# Altium footprint library Discretes.PCBLIB: 77 footprints (part 3 of 5)
Each footprint in its own frame and in the unit in brackets; x right, y up, seen from the top. Pads: shape width x height; smd on the part's side, far side on the other; paste and mask are expansions set on the pad; w line width, h text height; cw(c..) or ccw(c..) is an arc to the next point about the centre after c.
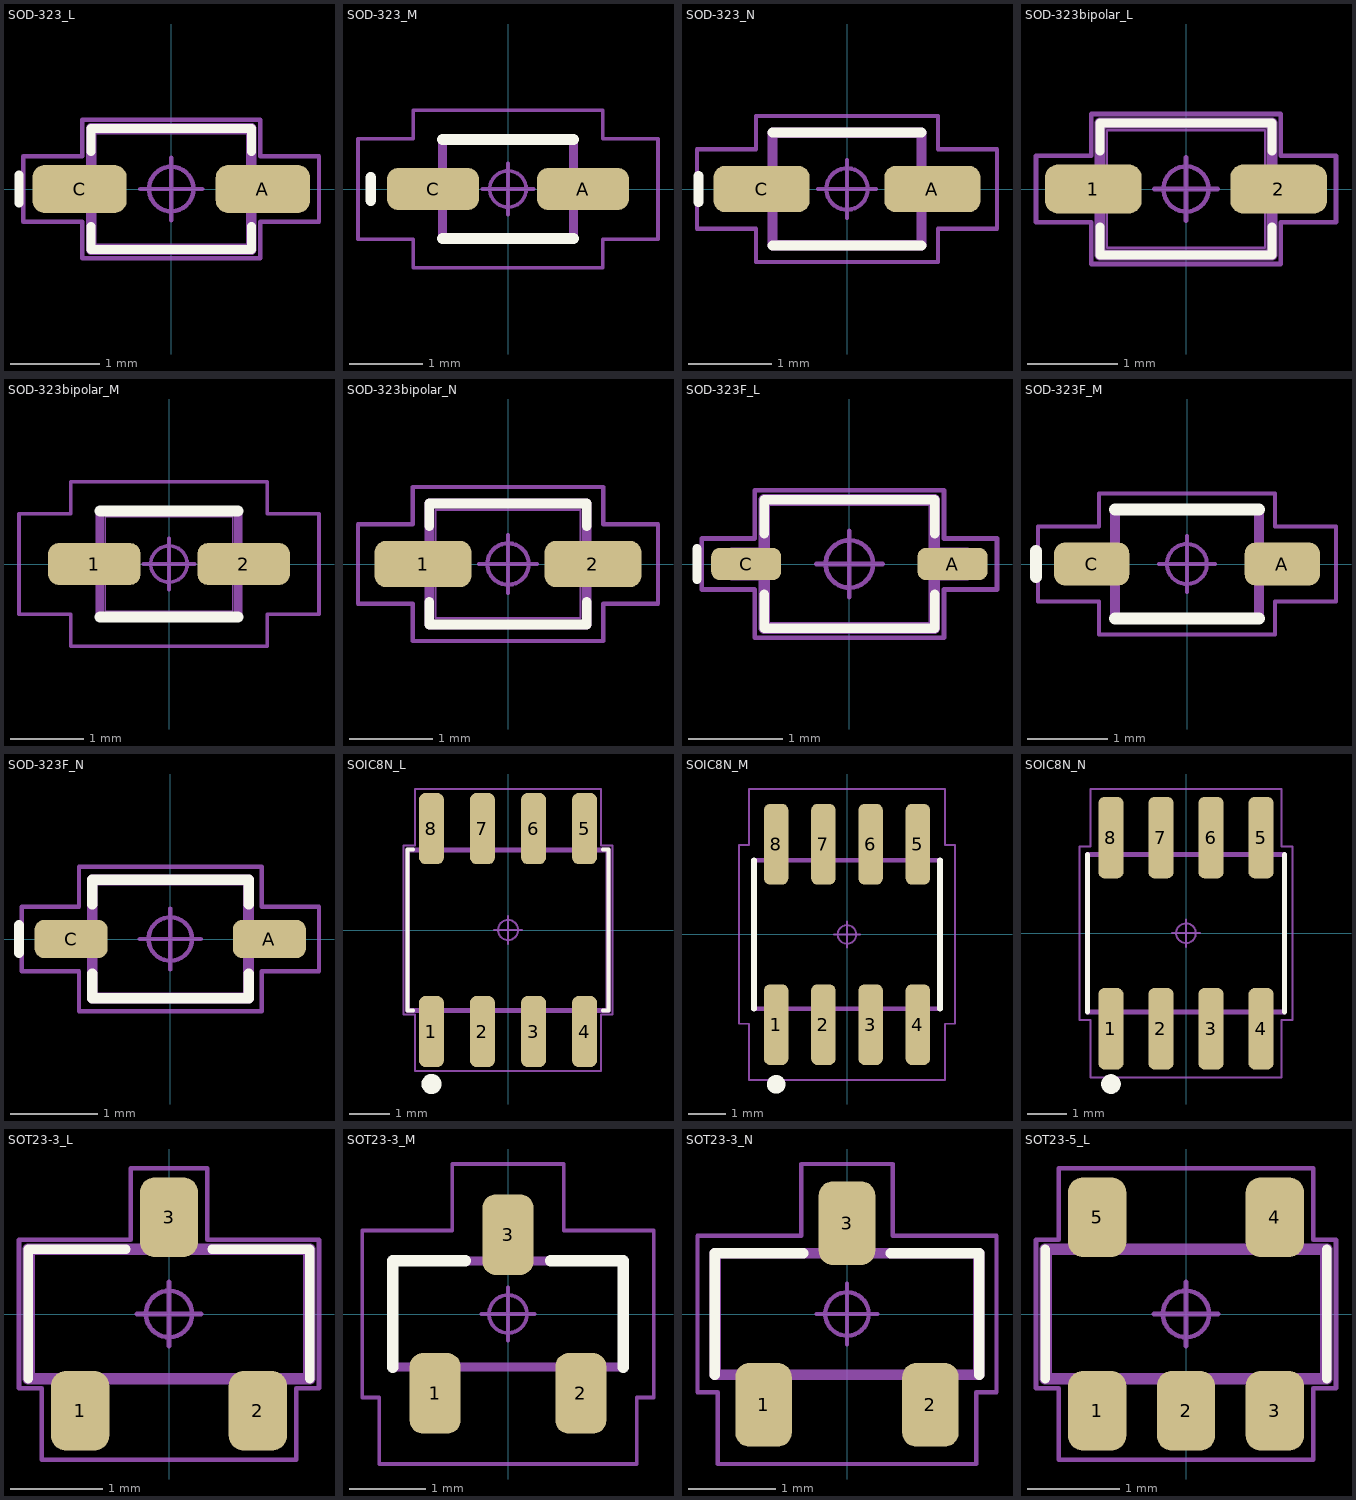
[diagram p2: the footprints below, top view; thin cyan lines are the x and y axes]

## SOD-323_L [mm] "Diode, Small Outline Diode (SOD); 1.70 mm L X 1.25 mm W X 1.10 mm H body"
height 1.1
pads (2):
  rrect52% 1.06x0.54 smd: A(1.03,0) C(-1.03,0)
Top Overlay:
  lines w0.1: -1.71,-0.16 -1.71,0.16 ; -0.9,-0.42 -0.9,-0.68 0.9,-0.68 0.9,-0.42 ; -0.9,0.42 -0.9,0.68 0.9,0.68 0.9,0.42
Top Body, 3D Models:
  lines w0.025: -0.85,-0.625 0.85,-0.625 0.85,0.625 -0.85,0.625 -0.85,-0.625
Top Courtyard:
  circle w0.05: c0,0 r0.25
  lines w0.05: -0.35,0 0.35,0 ; 0,-0.35 0,0.35 ; -1.66,-0.37 -1,-0.37 -1,-0.78 1,-0.78 1,-0.37 1.66,-0.37 1.66,0.37 1,0.37 1,0.78 -1,0.78 -1,0.37 -1.66,0.37 -1.66,-0.37
Top DesignatorDoc:
  text ".Designator" at 0,0 h1
Top Pad Outlines:
  lines w0.025: -1.25,-0.162 -1.25,0.162 -0.95,0.162 -0.95,-0.162 -1.25,-0.162 ; 0.95,-0.162 1.25,-0.162 1.25,0.162 0.95,0.162 0.95,-0.162
Top Assembly Outline:
  lines w0.12: -0.9,-0.68 0.9,-0.68 0.9,0.68 -0.9,0.68 -0.9,-0.68
3D body "SOD-323_L.STEP": height 1.1, standoff 0, extent -1.25,-0.625 1.25,0.625

## SOD-323_M [mm] "Diode, Small Outline Diode (SOD); 1.70 mm L X 1.25 mm W X 1.10 mm H body"
height 1.1
pads (2):
  rrect52% 1.26x0.58 smd: A(1.03,0) C(-1.03,0)
Top Overlay:
  lines w0.15: -1.885,-0.16 -1.885,0.16 ; -0.9,-0.68 0.9,-0.68 ; -0.9,0.68 0.9,0.68
Top Body, 3D Models:
  lines w0.025: -0.85,-0.625 0.85,-0.625 0.85,0.625 -0.85,0.625 -0.85,-0.625
Top Courtyard:
  circle w0.05: c0,0 r0.25
  lines w0.05: -0.35,0 0.35,0 ; 0,-0.35 0,0.35 ; -2.06,-0.69 -1.3,-0.69 -1.3,-1.08 1.3,-1.08 1.3,-0.69 2.06,-0.69 2.06,0.69 1.3,0.69 1.3,1.08 -1.3,1.08 -1.3,0.69 -2.06,0.69 -2.06,-0.69
Top DesignatorDoc:
  text ".Designator" at 0,0 h1.5
Top Pad Outlines:
  lines w0.025: -1.25,-0.162 -1.25,0.162 -0.95,0.162 -0.95,-0.162 -1.25,-0.162 ; 0.95,-0.162 1.25,-0.162 1.25,0.162 0.95,0.162 0.95,-0.162
Top Assembly Outline:
  lines w0.12: -0.9,-0.68 0.9,-0.68 0.9,0.68 -0.9,0.68 -0.9,-0.68
3D body "SOD-323_M.STEP": height 1.1, standoff 0, extent -1.25,-0.625 1.25,0.625

## SOD-323_N [mm] "Diode, Small Outline Diode (SOD); 1.70 mm L X 1.25 mm W X 1.10 mm H body"
height 1.1
pads (2):
  rrect50% 1.16x0.56 smd: A(1.03,0) C(-1.03,0)
Top Overlay:
  lines w0.12: -1.79,-0.16 -1.79,0.16 ; -0.9,-0.68 0.9,-0.68 ; -0.9,0.68 0.9,0.68
Top Body, 3D Models:
  lines w0.025: -0.85,-0.625 0.85,-0.625 0.85,0.625 -0.85,0.625 -0.85,-0.625
Top Courtyard:
  circle w0.05: c0,0 r0.25
  lines w0.05: -0.35,0 0.35,0 ; 0,-0.35 0,0.35 ; -1.81,-0.48 -1.1,-0.48 -1.1,-0.88 1.1,-0.88 1.1,-0.48 1.81,-0.48 1.81,0.48 1.1,0.48 1.1,0.88 -1.1,0.88 -1.1,0.48 -1.81,0.48 -1.81,-0.48
Top DesignatorDoc:
  text ".Designator" at 0,0 h1.2
Top Pad Outlines:
  lines w0.025: -1.25,-0.162 -1.25,0.162 -0.95,0.162 -0.95,-0.162 -1.25,-0.162 ; 0.95,-0.162 1.25,-0.162 1.25,0.162 0.95,0.162 0.95,-0.162
Top Assembly Outline:
  lines w0.12: -0.9,-0.68 0.9,-0.68 0.9,0.68 -0.9,0.68 -0.9,-0.68
3D body "SOD-323_N.STEP": height 1.1, standoff 0, extent -1.25,-0.625 1.25,0.625

## SOD-323bipolar_L [mm] "Diode, Non-Polarized, Small Outline Diode (SOD); 1.75 mm L X 1.30 mm W X 1.14 mm H body"
height 1.14
pads (2):
  rrect52% 1.07x0.54 smd: 1(-1.025,0) 2(1.025,0)
Top Overlay:
  lines w0.1: -0.95,-0.42 -0.95,-0.73 0.95,-0.73 0.95,-0.42 ; -0.95,0.42 -0.95,0.73 0.95,0.73 0.95,0.42
Bottom Dimensions:
  lines w0.025: -1.272,-0.162 -1.272,0.162 -0.923,0.162 -0.923,-0.162 -1.272,-0.162 ; -0.875,-0.65 0.875,-0.65 0.875,0.65 -0.875,0.65 -0.875,-0.65 ; 0.923,-0.162 1.272,-0.162 1.272,0.162 0.923,0.162 0.923,-0.162
Top Courtyard:
  circle w0.05: c0,0 r0.25
  lines w0.05: -0.35,0 0.35,0 ; 0,-0.35 0,0.35 ; -1.66,-0.37 -1.05,-0.37 -1.05,-0.83 1.05,-0.83 1.05,-0.37 1.66,-0.37 1.66,0.37 1.05,0.37 1.05,0.83 -1.05,0.83 -1.05,0.37 -1.66,0.37 -1.66,-0.37
Top DesignatorDoc:
  text ".Designator" at 0,0 h1
Top Assembly Outline:
  lines w0.12: -0.95,-0.73 0.95,-0.73 0.95,0.73 -0.95,0.73 -0.95,-0.73
3D body "SOD323bipolar_L.STEP": height 1.14, standoff 0, extent -1.272,-0.65 1.272,0.65

## SOD-323bipolar_M [mm] "Diode, Non-Polarized, Small Outline Diode (SOD); 1.75 mm L X 1.30 mm W X 1.14 mm H body"
height 1.14
pads (2):
  rrect52% 1.27x0.58 smd: 1(-1.025,0) 2(1.025,0)
Top Overlay:
  lines w0.15: -0.95,-0.73 0.95,-0.73 ; -0.95,0.73 0.95,0.73
Bottom Dimensions:
  lines w0.025: -1.272,-0.162 -1.272,0.162 -0.923,0.162 -0.923,-0.162 -1.272,-0.162 ; -0.875,-0.65 0.875,-0.65 0.875,0.65 -0.875,0.65 -0.875,-0.65 ; 0.923,-0.162 1.272,-0.162 1.272,0.162 0.923,0.162 0.923,-0.162
Top Courtyard:
  circle w0.05: c0,0 r0.25
  lines w0.05: -0.35,0 0.35,0 ; 0,-0.35 0,0.35 ; -2.06,-0.69 -1.35,-0.69 -1.35,-1.13 1.35,-1.13 1.35,-0.69 2.06,-0.69 2.06,0.69 1.35,0.69 1.35,1.13 -1.35,1.13 -1.35,0.69 -2.06,0.69 -2.06,-0.69
Top DesignatorDoc:
  text ".Designator" at 0,0 h1.5
Top Assembly Outline:
  lines w0.12: -0.95,-0.73 -0.95,0.73 0.95,0.73 0.95,-0.73 -0.95,-0.73
3D body "SOD323bipolar_M.STEP": height 1.14, standoff 0, extent -1.272,-0.65 1.272,0.65

## SOD-323bipolar_N [mm] "Diode, Non-Polarized, Small Outline Diode (SOD); 1.75 mm L X 1.30 mm W X 1.14 mm H body"
height 1.14
pads (2):
  rrect50% 1.17x0.56 smd: 1(-1.025,0) 2(1.025,0)
Top Overlay:
  lines w0.12: -0.95,-0.46 -0.95,-0.73 0.95,-0.73 0.95,-0.46 ; -0.95,0.46 -0.95,0.73 0.95,0.73 0.95,0.46
Bottom Dimensions:
  lines w0.025: -1.272,-0.162 -1.272,0.162 -0.923,0.162 -0.923,-0.162 -1.272,-0.162 ; -0.875,-0.65 0.875,-0.65 0.875,0.65 -0.875,0.65 -0.875,-0.65 ; 0.923,-0.162 1.272,-0.162 1.272,0.162 0.923,0.162 0.923,-0.162
Top Courtyard:
  circle w0.05: c0,0 r0.25
  lines w0.05: -0.35,0 0.35,0 ; 0,-0.35 0,0.35 ; -1.81,-0.48 -1.15,-0.48 -1.15,-0.93 1.15,-0.93 1.15,-0.48 1.81,-0.48 1.81,0.48 1.15,0.48 1.15,0.93 -1.15,0.93 -1.15,0.48 -1.81,0.48 -1.81,-0.48
Top DesignatorDoc:
  text ".Designator" at 0,0 h1.2
Top Assembly Outline:
  lines w0.12: -0.95,-0.73 0.95,-0.73 0.95,0.73 -0.95,0.73 -0.95,-0.73
3D body "SOD323bipolar.STEP": height 1.14, standoff 0, extent -1.272,-0.65 1.272,0.65

## SOD-323F_L [mm] "Diode, Small Outline Diode Flat Lead (SODFL); 1.70 mm L X 1.25 mm W X 0.80 mm H body"
height 0.8
pads (2):
  rrect53% 0.74x0.34 smd: A(1.09,0) C(-1.09,0)
Top Overlay:
  lines w0.1: -1.61,-0.16 -1.61,0.16 ; -0.9,-0.32 -0.9,-0.68 0.9,-0.68 0.9,-0.32 ; -0.9,0.32 -0.9,0.68 0.9,0.68 0.9,0.32
Top Body, 3D Models:
  lines w0.025: -0.85,-0.625 0.85,-0.625 0.85,0.625 -0.85,0.625 -0.85,-0.625
Top Courtyard:
  circle w0.05: c0,0 r0.25
  lines w0.05: -0.35,0 0.35,0 ; 0,-0.35 0,0.35 ; -1.56,-0.27 -1,-0.27 -1,-0.78 1,-0.78 1,-0.27 1.56,-0.27 1.56,0.27 1,0.27 1,0.78 -1,0.78 -1,0.27 -1.56,0.27 -1.56,-0.27
Top DesignatorDoc:
  text ".Designator" at 0,0 h1
Top Pad Outlines:
  lines w0.025: -1.25,-0.162 -1.25,0.162 -0.85,0.162 -0.85,-0.162 -1.25,-0.162 ; 0.85,-0.162 1.25,-0.162 1.25,0.162 0.85,0.162 0.85,-0.162
Top Assembly Outline:
  lines w0.12: -0.9,-0.68 0.9,-0.68 0.9,0.68 -0.9,0.68 -0.9,-0.68
3D body "SOD-323F_L.STEP": height 0.8, standoff 0, extent -1.25,-0.625 1.25,0.625

## SOD-323F_M [mm] "Diode, Small Outline Diode Flat Lead (SODFL); 1.70 mm L X 1.25 mm W X 0.80 mm H body"
height 0.8
pads (2):
  rrect52% 0.94x0.54 smd: A(1.19,0) C(-1.19,0)
Top Overlay:
  lines w0.15: -1.885,-0.16 -1.885,0.16 ; -0.9,-0.68 0.9,-0.68 ; -0.9,0.68 0.9,0.68
Top Body, 3D Models:
  lines w0.025: -0.85,-0.625 0.85,-0.625 0.85,0.625 -0.85,0.625 -0.85,-0.625
Top Courtyard:
  circle w0.05: c0,0 r0.25
  lines w0.05: -0.35,0 0.35,0 ; 0,-0.35 0,0.35 ; -1.86,-0.47 -1.1,-0.47 -1.1,-0.88 1.1,-0.88 1.1,-0.47 1.86,-0.47 1.86,0.47 1.1,0.47 1.1,0.88 -1.1,0.88 -1.1,0.47 -1.86,0.47 -1.86,-0.47
Top DesignatorDoc:
  text ".Designator" at 0,0 h1.5
Top Pad Outlines:
  lines w0.025: -1.25,-0.162 -1.25,0.162 -0.85,0.162 -0.85,-0.162 -1.25,-0.162 ; 0.85,-0.162 1.25,-0.162 1.25,0.162 0.85,0.162 0.85,-0.162
Top Assembly Outline:
  lines w0.12: -0.9,-0.68 0.9,-0.68 0.9,0.68 -0.9,0.68 -0.9,-0.68
3D body "SOD-323F_M.STEP": height 0.8, standoff 0, extent -1.25,-0.625 1.25,0.625

## SOD-323F_N [mm] "Diode, Small Outline Diode Flat Lead (SODFL); 1.70 mm L X 1.25 mm W X 0.80 mm H body"
height 0.8
pads (2):
  rrect50% 0.84x0.44 smd: A(1.14,0) C(-1.14,0)
Top Overlay:
  lines w0.12: -1.74,-0.16 -1.74,0.16 ; -0.9,-0.4 -0.9,-0.68 0.9,-0.68 0.9,-0.4 ; -0.9,0.4 -0.9,0.68 0.9,0.68 0.9,0.4
Top Body, 3D Models:
  lines w0.025: -0.85,-0.625 -0.85,0.625 0.85,0.625 0.85,-0.625 -0.85,-0.625
Top Courtyard:
  circle w0.05: c0,0 r0.25
  lines w0.05: -0.35,0 0.35,0 ; 0,-0.35 0,0.35 ; -1.71,-0.37 -1.71,0.37 -1.05,0.37 -1.05,0.83 1.05,0.83 1.05,0.37 1.71,0.37 1.71,-0.37 1.05,-0.37 1.05,-0.83 -1.05,-0.83 -1.05,-0.37 -1.71,-0.37
Top DesignatorDoc:
  text ".Designator" at 0,0 h1.2
Top Pad Outlines:
  lines w0.025: -1.25,-0.162 -0.85,-0.162 -0.85,0.162 -1.25,0.162 -1.25,-0.162 ; 0.85,-0.162 0.85,0.162 1.25,0.162 1.25,-0.162 0.85,-0.162
Top Assembly Outline:
  lines w0.12: -0.9,-0.68 -0.9,0.68 0.9,0.68 0.9,-0.68 -0.9,-0.68
3D body "SOD-323F_N.STEP": height 0.8, standoff 0, extent -1.25,-0.625 1.25,0.625

## SOIC8N_L [mm] "Small Outline IC (SOIC), 1.27 mm pitch; 8 pin, 4.90 mm L X 3.90 mm W X 1.75 mm H body"
height 1.75
pads (8):
  rrect52% 0.62x1.77 smd: 1(-1.905,-2.525) 2(-0.635,-2.525) 3(0.635,-2.525) 4(1.905,-2.525) 5(1.905,2.525) 6(0.635,2.525) 7(-0.635,2.525) 8(-1.905,2.525)
Top Overlay:
  circle w0.25: c-1.905,-3.83 r0.125
  lines w0.1: -2.365,-2 -2.5,-2 -2.5,2 -2.365,2 ; 2.365,-2 2.5,-2 2.5,2 2.365,2
Top Body, 3D Models:
  lines w0.025: -2.45,-1.95 -2.45,1.95 2.45,1.95 2.45,-1.95 -2.45,-1.95
Top Courtyard:
  circle w0.05: c0,0 r0.25
  lines w0.05: -0.35,0 0.35,0 ; 0,-0.35 0,0.35 ; -2.6,-2.1 -2.6,2.1 -2.315,2.1 -2.315,3.51 2.315,3.51 2.315,2.1 2.6,2.1 2.6,-2.1 2.315,-2.1 2.315,-3.51 -2.315,-3.51 -2.315,-2.1 -2.6,-2.1
Top DesignatorDoc:
  text ".Designator" at 0,0 h1
Top Pad Outlines:
  lines w0.025: -2.113,-3 -1.697,-3 -1.697,-2.165 -2.113,-2.165 -2.113,-3 ; -2.113,2.165 -1.697,2.165 -1.697,3 -2.113,3 -2.113,2.165 ; -0.843,-3 -0.427,-3 -0.427,-2.165 -0.843,-2.165 -0.843,-3 ; -0.843,2.165 -0.427,2.165 -0.427,3 -0.843,3 -0.843,2.165 ; 0.427,-3 0.843,-3 0.843,-2.165 0.427,-2.165 0.427,-3 ; 0.427,2.165 0.843,2.165 0.843,3 0.427,3 0.427,2.165 ; 1.697,-3 2.113,-3 2.113,-2.165 1.697,-2.165 1.697,-3 ; 1.697,2.165 2.113,2.165 2.113,3 1.697,3 1.697,2.165
Top Assembly Outline:
  lines w0.12: -2.5,-2 -2.5,2 2.5,2 2.5,-2 -2.5,-2
3D body "SOIC8N_L.STEP": height 1.75, standoff 0, extent -2.45,-3 2.45,3

## SOIC8N_M [mm] "Small Outline IC (SOIC), 1.27 mm pitch; 8 pin, 4.90 mm L X 3.90 mm W X 1.75 mm H body"
height 1.75
pads (8):
  rrect52% 0.66x2.17 smd: 1(-1.905,-2.425) 2(-0.635,-2.425) 3(0.635,-2.425) 4(1.905,-2.425) 5(1.905,2.425) 6(0.635,2.425) 7(-0.635,2.425) 8(-1.905,2.425)
Top Overlay:
  circle w0.25: c-1.905,-4.03 r0.125
  lines w0.15: -2.5,-2 -2.5,2 ; 2.5,-2 2.5,2
Top Body, 3D Models:
  lines w0.025: -2.45,-1.95 -2.45,1.95 2.45,1.95 2.45,-1.95 -2.45,-1.95
Top Courtyard:
  circle w0.05: c0,0 r0.25
  lines w0.05: -0.35,0 0.35,0 ; 0,-0.35 0,0.35 ; -2.9,-2.4 -2.9,2.4 -2.635,2.4 -2.635,3.91 2.635,3.91 2.635,2.4 2.9,2.4 2.9,-2.4 2.635,-2.4 2.635,-3.91 -2.635,-3.91 -2.635,-2.4 -2.9,-2.4
Top DesignatorDoc:
  text ".Designator" at 0,0 h1.5
Top Pad Outlines:
  lines w0.025: -2.113,-3 -1.697,-3 -1.697,-2.165 -2.113,-2.165 -2.113,-3 ; -2.113,2.165 -1.697,2.165 -1.697,3 -2.113,3 -2.113,2.165 ; -0.843,-3 -0.427,-3 -0.427,-2.165 -0.843,-2.165 -0.843,-3 ; -0.843,2.165 -0.427,2.165 -0.427,3 -0.843,3 -0.843,2.165 ; 0.427,-3 0.843,-3 0.843,-2.165 0.427,-2.165 0.427,-3 ; 0.427,2.165 0.843,2.165 0.843,3 0.427,3 0.427,2.165 ; 1.697,-3 2.113,-3 2.113,-2.165 1.697,-2.165 1.697,-3 ; 1.697,2.165 2.113,2.165 2.113,3 1.697,3 1.697,2.165
Top Assembly Outline:
  lines w0.12: -2.5,-2 -2.5,2 2.5,2 2.5,-2 -2.5,-2
3D body "SOIC8N_M.STEP": height 1.75, standoff 0, extent -2.45,-3 2.45,3

## SOIC8N_N [mm] "Small Outline IC (SOIC), 1.27 mm pitch; 8 pin, 4.90 mm L X 3.90 mm W X 1.75 mm H body"
height 1.75
pads (8):
  rrect50% 0.64x2.07 smd: 1(-1.905,-2.425) 2(-0.635,-2.425) 3(0.635,-2.425) 4(1.905,-2.425) 5(1.905,2.425) 6(0.635,2.425) 7(-0.635,2.425) 8(-1.905,2.425)
Top Overlay:
  circle w0.25: c-1.905,-3.83 r0.125
  lines w0.12: -2.5,-2 -2.5,2 ; 2.5,-2 2.5,2
Top Body, 3D Models:
  lines w0.025: -2.45,-1.95 -2.45,1.95 2.45,1.95 2.45,-1.95 -2.45,-1.95
Top Courtyard:
  circle w0.05: c0,0 r0.25
  lines w0.05: -0.35,0 0.35,0 ; 0,-0.35 0,0.35 ; -2.7,-2.2 -2.7,2.2 -2.425,2.2 -2.425,3.66 2.425,3.66 2.425,2.2 2.7,2.2 2.7,-2.2 2.425,-2.2 2.425,-3.66 -2.425,-3.66 -2.425,-2.2 -2.7,-2.2
Top DesignatorDoc:
  text ".Designator" at 0,0 h1.2
Top Pad Outlines:
  lines w0.025: -2.113,-3 -1.697,-3 -1.697,-2.165 -2.113,-2.165 -2.113,-3 ; -2.113,2.165 -1.697,2.165 -1.697,3 -2.113,3 -2.113,2.165 ; -0.843,-3 -0.427,-3 -0.427,-2.165 -0.843,-2.165 -0.843,-3 ; -0.843,2.165 -0.427,2.165 -0.427,3 -0.843,3 -0.843,2.165 ; 0.427,-3 0.843,-3 0.843,-2.165 0.427,-2.165 0.427,-3 ; 0.427,2.165 0.843,2.165 0.843,3 0.427,3 0.427,2.165 ; 1.697,-3 2.113,-3 2.113,-2.165 1.697,-2.165 1.697,-3 ; 1.697,2.165 2.113,2.165 2.113,3 1.697,3 1.697,2.165
Top Assembly Outline:
  lines w0.12: -2.5,-2 -2.5,2 2.5,2 2.5,-2 -2.5,-2
3D body "SOIC8N_N.STEP": height 1.75, standoff 0, extent -2.45,-3 2.45,3

## SOT23-3_L [mm] "Small Outline Transistor (SOT23), 0.96 mm pitch; 3 pin, 2.92 mm L X 1.30 mm W X 1.12 mm H body"
height 1.12
pads (3):
  rrect51% 0.63x0.86 smd: 1(-0.96,-1.045) 2(0.96,-1.045) 3(0,1.045)
Top Overlay:
  lines w0.1: -1.52,-0.7 -1.52,0.7 -0.465,0.7 ; 0.465,0.7 1.52,0.7 1.52,-0.7
Top Body, 3D Models:
  lines w0.025: -1.46,-0.65 1.46,-0.65 1.46,0.65 -1.46,0.65 -1.46,-0.65
Top Courtyard:
  circle w0.05: c0,0 r0.25
  lines w0.05: -0.35,0 0.35,0 ; 0,-0.35 0,0.35 ; -1.62,-0.8 -1.375,-0.8 -1.375,-1.575 1.375,-1.575 1.375,-0.8 1.62,-0.8 1.62,0.8 0.415,0.8 0.415,1.575 -0.415,1.575 -0.415,0.8 -1.62,0.8 -1.62,-0.8
Top DesignatorDoc:
  text ".Designator" at 0,0 h1
Top Pad Outlines:
  lines w0.025: -1.18,-1.185 -1.18,-0.96 -0.74,-0.96 -0.74,-1.185 -1.18,-1.185 ; -0.22,0.96 -0.22,1.185 0.22,1.185 0.22,0.96 -0.22,0.96 ; 0.74,-1.185 0.74,-0.96 1.18,-0.96 1.18,-1.185 0.74,-1.185
Top Assembly Outline:
  lines w0.12: -1.52,-0.7 1.52,-0.7 1.52,0.7 -1.52,0.7 -1.52,-0.7
3D body "SOT23-3_L.STEP": height 1.12, standoff 0, extent -1.46,-1.185 1.46,1.185

## SOT23-3_M [mm] "Small Outline Transistor (SOT23), 0.96 mm pitch; 3 pin, 2.92 mm L X 1.30 mm W X 1.12 mm H body"
height 1.12
pads (3):
  rrect51% 0.67x1.06 smd: 1(-0.96,-1.045) 2(0.96,-1.045) 3(0,1.045)
Top Overlay:
  lines w0.15: -1.52,-0.7 -1.52,0.7 -0.56,0.7 ; 0.56,0.7 1.52,0.7 1.52,-0.7
Top Body, 3D Models:
  lines w0.025: -1.46,-0.65 1.46,-0.65 1.46,0.65 -1.46,0.65 -1.46,-0.65
Top Courtyard:
  circle w0.05: c0,0 r0.25
  lines w0.05: -0.35,0 0.35,0 ; 0,-0.35 0,0.35 ; -1.92,-1.1 -1.695,-1.1 -1.695,-1.975 1.695,-1.975 1.695,-1.1 1.92,-1.1 1.92,1.1 0.735,1.1 0.735,1.975 -0.735,1.975 -0.735,1.1 -1.92,1.1 -1.92,-1.1
Top DesignatorDoc:
  text ".Designator" at 0,0 h1.5
Top Pad Outlines:
  lines w0.025: -1.18,-1.185 -1.18,-0.96 -0.74,-0.96 -0.74,-1.185 -1.18,-1.185 ; -0.22,0.96 -0.22,1.185 0.22,1.185 0.22,0.96 -0.22,0.96 ; 0.74,-1.185 0.74,-0.96 1.18,-0.96 1.18,-1.185 0.74,-1.185
Top Assembly Outline:
  lines w0.12: -1.52,-0.7 1.52,-0.7 1.52,0.7 -1.52,0.7 -1.52,-0.7
3D body "SOT23-3_M.STEP": height 1.12, standoff 0, extent -1.46,-1.185 1.46,1.185

## SOT23-3_N [mm] "Small Outline Transistor (SOT23), 0.96 mm pitch; 3 pin, 2.92 mm L X 1.30 mm W X 1.12 mm H body"
height 1.12
pads (3):
  rrect49% 0.65x0.96 smd: 1(-0.96,-1.045) 2(0.96,-1.045) 3(0,1.045)
Top Overlay:
  lines w0.12: -1.52,-0.7 -1.52,0.7 -0.505,0.7 ; 0.505,0.7 1.52,0.7 1.52,-0.7
Top Body, 3D Models:
  lines w0.025: -1.46,-0.65 -1.46,0.65 1.46,0.65 1.46,-0.65 -1.46,-0.65
Top Courtyard:
  circle w0.05: c0,0 r0.25
  lines w0.05: -0.35,0 0.35,0 ; 0,-0.35 0,0.35 ; -1.72,-0.9 -1.72,0.9 -0.525,0.9 -0.525,1.725 0.525,1.725 0.525,0.9 1.72,0.9 1.72,-0.9 1.485,-0.9 1.485,-1.725 -1.485,-1.725 -1.485,-0.9 -1.72,-0.9
Top DesignatorDoc:
  text ".Designator" at 0,0 h1.2
Top Pad Outlines:
  lines w0.025: -1.18,-1.185 -0.74,-1.185 -0.74,-0.96 -1.18,-0.96 -1.18,-1.185 ; -0.22,0.96 0.22,0.96 0.22,1.185 -0.22,1.185 -0.22,0.96 ; 0.74,-1.185 1.18,-1.185 1.18,-0.96 0.74,-0.96 0.74,-1.185
Top Assembly Outline:
  lines w0.12: -1.52,-0.7 -1.52,0.7 1.52,0.7 1.52,-0.7 -1.52,-0.7
3D body "SOT23-3_N.STEP": height 1.12, standoff 0, extent -1.46,-1.185 1.46,1.185

## SOT23-5_L [mm] "Small Outline Transistor (SOT23), 0.96 mm pitch; 5 pin, 2.92 mm L X 1.30 mm W X 1.12 mm H body"
height 1.12
pads (5):
  rrect51% 0.63x0.86 smd: 1(-0.96,-1.045) 2(0,-1.045) 3(0.96,-1.045) 4(0.96,1.045) 5(-0.96,1.045)
Top Overlay:
  lines w0.1: -1.52,-0.7 -1.52,0.7 ; 1.52,-0.7 1.52,0.7
Top Body, 3D Models:
  lines w0.025: -1.46,-0.65 -1.46,0.65 1.46,0.65 1.46,-0.65 -1.46,-0.65
Top Courtyard:
  circle w0.05: c0,0 r0.25
  lines w0.05: -0.35,0 0.35,0 ; 0,-0.35 0,0.35 ; -1.62,-0.8 -1.62,0.8 -1.375,0.8 -1.375,1.575 1.375,1.575 1.375,0.8 1.62,0.8 1.62,-0.8 1.375,-0.8 1.375,-1.575 -1.375,-1.575 -1.375,-0.8 -1.62,-0.8
Top DesignatorDoc:
  text ".Designator" at 0,0 h1
Top Pad Outlines:
  lines w0.025: -1.18,-1.185 -0.74,-1.185 -0.74,-0.96 -1.18,-0.96 -1.18,-1.185 ; -1.18,0.96 -0.74,0.96 -0.74,1.185 -1.18,1.185 -1.18,0.96 ; -0.22,-1.185 0.22,-1.185 0.22,-0.96 -0.22,-0.96 -0.22,-1.185 ; 0.74,-1.185 1.18,-1.185 1.18,-0.96 0.74,-0.96 0.74,-1.185 ; 0.74,0.96 1.18,0.96 1.18,1.185 0.74,1.185 0.74,0.96
Top Assembly Outline:
  lines w0.12: -1.52,-0.7 -1.52,0.7 1.52,0.7 1.52,-0.7 -1.52,-0.7
3D body "SOT23-5_L.STEP": height 1.12, standoff 0, extent -1.46,-1.185 1.46,1.185